# Altium footprint library QFN_DFN_package.PcbLib: 18 footprints (part 2 of 2)
Each footprint in its own frame and in the unit in brackets; x right, y up, seen from the top. Pads: shape width x height; smd on the part's side, far side on the other; paste and mask are expansions set on the pad; w line width, h text height; cw(c..) or ccw(c..) is an arc to the next point about the centre after c.
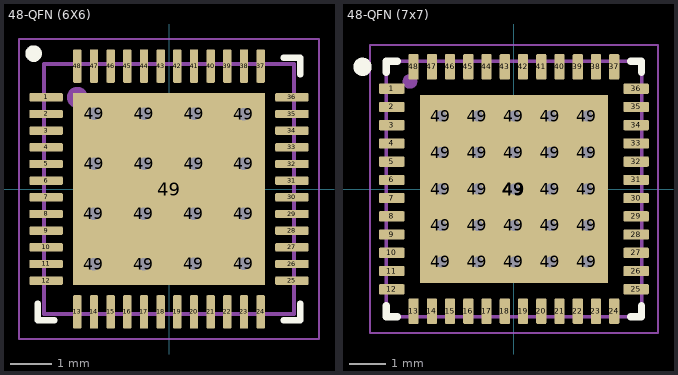
[diagram p1: the footprints below, top view; thin cyan lines are the x and y axes]

## 48-QFN (6X6) [mm] "1EP_6x6mm_P0.4mm_EP4.6x4.6mm_ThermalVias"
height 0.75
pads (65):
  rrect25% 0.8x0.2 smd mask+0.05: 1(-2.95,2.2) 2(-2.95,1.8) 3(-2.95,1.4) 4(-2.95,1) 5(-2.95,0.6) 6(-2.95,0.2) 7(-2.95,-0.2) 8(-2.95,-0.6) 9(-2.95,-1) 10(-2.95,-1.4) 11(-2.95,-1.8) 12(-2.95,-2.2) 25(2.95,-2.2) 26(2.95,-1.8) 27(2.95,-1.4) 28(2.95,-1) 29(2.95,-0.6) 30(2.95,-0.2) 31(2.95,0.2) 32(2.95,0.6) 33(2.95,1) 34(2.95,1.4) 35(2.95,1.8) 36(2.95,2.2)
  rrect25% 0.2x0.8 smd mask+0.05: 13(-2.2,-2.95) 14(-1.8,-2.95) 15(-1.4,-2.95) 16(-1,-2.95) 17(-0.6,-2.95) 18(-0.2,-2.95) 19(0.2,-2.95) 20(0.6,-2.95) 21(1,-2.95) 22(1.4,-2.95) 23(1.8,-2.95) 24(2.2,-2.95) 37(2.2,2.95) 38(1.8,2.95) 39(1.4,2.95) 40(1,2.95) 41(0.6,2.95) 42(0.2,2.95) 43(-0.2,2.95) 44(-0.6,2.95) 45(-1,2.95) 46(-1.4,2.95) 47(-1.8,2.95) 48(-2.2,2.95)
  round 0.6 hole 0.3: 49(-1.8,-1.8) 49(-1.8,-0.6) 49(-1.8,0.6) 49(-1.8,1.8) 49(-0.6,-1.8) 49(-0.6,-0.6) 49(-0.6,0.6) 49(-0.6,1.8) 49(0.6,-1.8) 49(0.6,-0.6) 49(0.6,0.6) 49(0.6,1.8) 49(1.8,-1.8) 49(1.8,-0.6) 49(1.8,0.6) 49(1.8,1.8)
  rect 4.6x4.6 smd mask+0.05: 49(0,0)
Top Overlay:
  circle w0.2: c-3.25,3.25 r0.1
  lines w0.15: -3.15,-2.75 -3.15,-3.15 -2.75,-3.15 ; 2.75,-3.15 3.15,-3.15 3.15,-2.75 ; 2.75,3.15 3.15,3.15 3.15,2.75
Top Assembly:
  circle w0.3: c-2.2,2.2 r0.1
  lines w0.1: -3,-3 3,-3 3,3 -3,3 -3,-3
  text ".Designator" at -4.998,-0.333 h1
Top Courtyard:
  lines w0.05: -3.6,-3.6 3.6,-3.6 3.6,3.6 -3.6,3.6 -3.6,-3.6
3D body "User Library-QFN48_0_4.step": height 0.9, standoff -0.01, extent -3,-3 3,3

## 48-QFN (7x7) [mm]
height 0.75
pads (74):
  rrect25% 0.7x0.28 smd mask+0.05: 1(-3.35,2.75) 2(-3.35,2.25) 3(-3.35,1.75) 4(-3.35,1.25) 5(-3.35,0.75) 6(-3.35,0.25) 7(-3.35,-0.25) 8(-3.35,-0.75) 9(-3.35,-1.25) 10(-3.35,-1.75) 11(-3.35,-2.25) 12(-3.35,-2.75) 25(3.35,-2.75) 26(3.35,-2.25) 27(3.35,-1.75) 28(3.35,-1.25) 29(3.35,-0.75) 30(3.35,-0.25) 31(3.35,0.25) 32(3.35,0.75) 33(3.35,1.25) 34(3.35,1.75) 35(3.35,2.25) 36(3.35,2.75)
  rrect25% 0.28x0.7 smd mask+0.05: 13(-2.75,-3.35) 14(-2.25,-3.35) 15(-1.75,-3.35) 16(-1.25,-3.35) 17(-0.75,-3.35) 18(-0.25,-3.35) 19(0.25,-3.35) 20(0.75,-3.35) 21(1.25,-3.35) 22(1.75,-3.35) 23(2.25,-3.35) 24(2.75,-3.35) 37(2.75,3.35) 38(2.25,3.35) 39(1.75,3.35) 40(1.25,3.35) 41(0.75,3.35) 42(0.25,3.35) 43(-0.25,3.35) 44(-0.75,3.35) 45(-1.25,3.35) 46(-1.75,3.35) 47(-2.25,3.35) 48(-2.75,3.35)
  round 0.7 hole 0.3: 49(-2,-2) 49(-2,-1) 49(-2,0) 49(-2,1) 49(-2,2) 49(-1,-2) 49(-1,-1) 49(-1,0) 49(-1,1) 49(-1,2) 49(0,-2) 49(0,-1) 49(0,0) 49(0,1) 49(0,2) 49(1,-2) 49(1,-1) 49(1,0) 49(1,1) 49(1,2) 49(2,-2) 49(2,-1) 49(2,0) 49(2,1) 49(2,2)
  rect 5.15x5.15 smd mask+0.05: 49(0,0)
Top Overlay:
  circle w0.25: c-4.15,3.35 r0.125
  lines w0.2: -3.5,-3.2 -3.5,-3.5 -3.2,-3.5 ; -3.5,3.2 -3.5,3.5 -3.2,3.5 ; 3.2,-3.5 3.5,-3.5 3.5,-3.2 ; 3.2,3.5 3.5,3.5 3.5,3.2
Top Assembly:
  circle w0.2: c-2.85,2.95 r0.1
  lines w0.1: -3.5,-3.5 -3.5,3.5 3.5,3.5 3.5,-3.5 -3.5,-3.5
  text ".Designator" at -4.998,-0.333 h1
Top Courtyard:
  lines w0.05: -3.95,-3.95 -3.95,3.95 3.95,3.95 3.95,-3.95 -3.95,-3.95
3D body "User Library-QFN48_7x7.STEP": height 0.78, standoff -0.02, extent -3.51,-3.51 3.51,3.51